# Altium footprint library Power.PcbLib: 4 footprints
Each footprint in its own frame and in the unit in brackets; x right, y up, seen from the top. Pads: shape width x height; smd on the part's side, far side on the other; paste and mask are expansions set on the pad; w line width, h text height; cw(c..) or ccw(c..) is an arc to the next point about the centre after c.
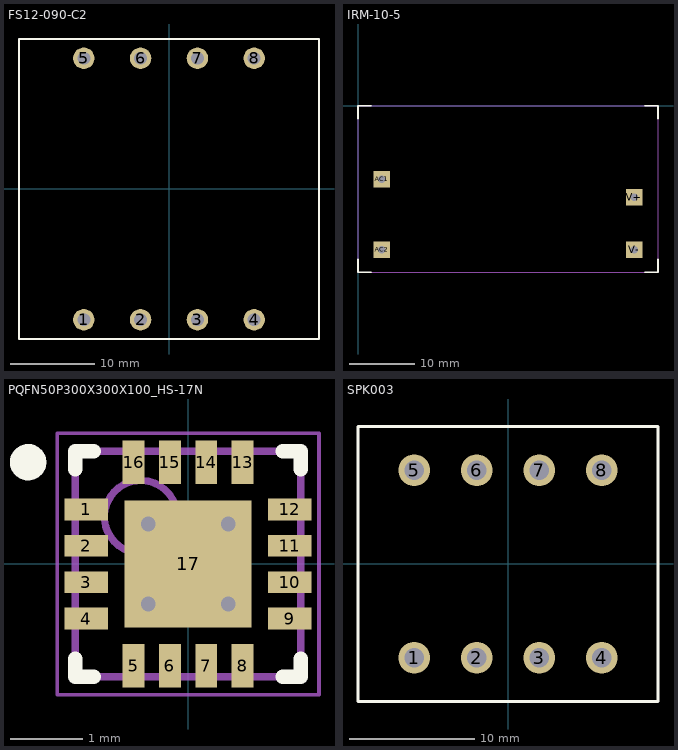
[diagram p0: the footprints below, top view; thin cyan lines are the x and y axes]

## FS12-090-C2 [mil]
pads (8):
  round 100 hole 60: 1(-397.5,-610) 2(-132.5,-610) 3(132.5,-610) 4(397.5,-610) 5(-397.5,610) 6(-132.5,610) 7(132.5,610) 8(397.5,610)
Top Overlay:
  lines w10: -700,-700 700,-700 700,700 -700,700 -700,-700
3D body "Triad Magnetics-FS12-090-C2.STEP": height 937.5, standoff -233.5, extent -687.5,-610 688.5,610

## IRM-10-5 [mm] "AC/DC Power Modules 5V 2A 10W 85-264Vin Encap PS"
height 22
pads (4):
  rect 2.5x2.5 hole 1.15: AC1(3.6,-11.2) AC2(3.6,-21.95) V+(42.1,-13.95) V-(42.1,-21.95)
Top Overlay:
  lines w0.25: 0,-23.4 0,-25.4 2,-25.4 ; 0,-2 0,0 2,0 ; 43.7,-25.4 45.7,-25.4 45.7,-23.4 ; 43.7,0 45.7,0 45.7,-2
Mechanical 13:
  lines w0.1: 0,-25.4 45.7,-25.4 45.7,0 0,0 0,-25.4
3D body: height 21.5, standoff 0, extent 0,-25.4 45.7,0

## PQFN50P300X300X100_HS-17N [mm] "PQFN, 16-Leads, Body 3.00x3.00mm, Pitch 0.50mm, Thermal Pad 1.75x1.75mm, IPC Medium Density"
height 1
pads (17):
  rect 0.6x0.3 smd: 1(-1.4,0.75) 2(-1.4,0.25) 3(-1.4,-0.25) 4(-1.4,-0.75) 9(1.4,-0.75) 10(1.4,-0.25) 11(1.4,0.25) 12(1.4,0.75)
  rect 0.3x0.6 smd: 5(-0.75,-1.4) 6(-0.25,-1.4) 7(0.25,-1.4) 8(0.75,-1.4) 13(0.75,1.4) 14(0.25,1.4) 15(-0.25,1.4) 16(-0.75,1.4)
  rect 1.75x1.75 smd: 17(0,0)
via -0.55,0.55 diameter 0.5 hole 0.2
via 0.55,0.55 diameter 0.5 hole 0.2
via -0.55,-0.55 diameter 0.5 hole 0.2
via 0.55,-0.55 diameter 0.5 hole 0.2
Top Overlay:
  circle w0.25: c-2.2,1.4 r0.125
  lines w0.2: -1.55,-1.3 -1.55,-1.55 -1.3,-1.55 ; -1.55,1.3 -1.55,1.55 -1.3,1.55 ; 1.3,-1.55 1.55,-1.55 1.55,-1.3 ; 1.3,1.55 1.55,1.55 1.55,1.3
Mechanical 13:
  circle w0.1: c-0.65,0.65 r0.5
  lines w0.1: -1.55,-1.55 -1.55,1.55 1.55,1.55 1.55,-1.55 -1.55,-1.55
Mechanical 15:
  lines w0.05: -1.8,-1.8 -1.8,1.8 1.8,1.8 1.8,-1.8 -1.8,-1.8
  lines w0.1: -0.5,0 0.5,0 ; 0,-0.5 0,0.5
3D body: height 1, standoff 0, extent -1.55,-1.55 1.55,1.55

## SPK003 [mm]
pads (8):
  round 2.54 hole 1.524: 1(-7.5,-7.5) 2(-2.5,-7.5) 3(2.5,-7.5) 4(7.5,-7.5) 5(-7.5,7.5) 6(-2.5,7.5) 7(2.5,7.5) 8(7.5,7.5)
Top Overlay:
  lines w0.254: -12,-11 12,-11 12,11 -12,11 -12,-11
3D body: height 17.49, standoff -17.46, extent 5,-1 5,-1
3D body: height 15, standoff 0, extent -12,-11 12,11